# Altium schematic symbol library RemoteCar_V1.0.SchLib: 6 symbols
Pins are listed as number, name and electrical type; pins without a type are passive.

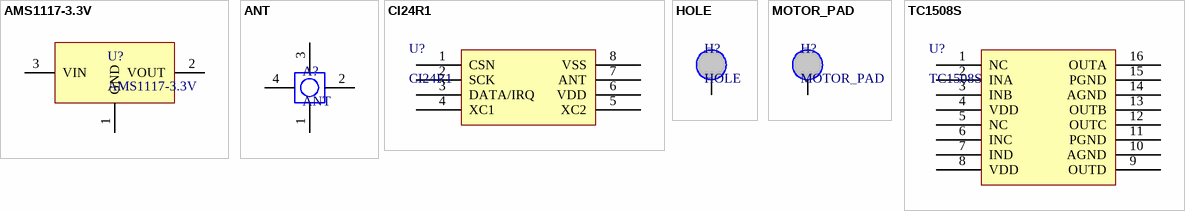
[diagram p0: symbols AMS1117-3.3V to TC1508S]

## AMS1117-3.3V
designator U?
footprint SOT230P700X180-4N (SOT223, 4-Leads, Body 6.50x7.00mm (avg), Pitch 2.30mm, IPC Medium Density)
pins: 1 GND, 2 VOUT, 3 VIN

## ANT
designator A?
footprint IPEX1
pins: 1 SIG, 2 GND, 3 GND, 4 GND

## CI24R1
designator U?
footprint TSOP127P600X145-8N (TSOP, 8-Leads, Body 4.90x3.90mm, Pitch 1.27mm, IPC Medium Density)
pins: 1 CSN, 2 SCK, 3 DATA/IRQ, 4 XC1, 5 XC2, 6 VDD, 7 ANT, 8 VSS

## HOLE
designator H?
footprint HOLE
pins: 1 GND

## MOTOR_PAD
designator H?
footprint MOTOR_PAD
pins: 1 MOTOR

## TC1508S
designator U?
footprint SOP127P600X180-16N (SOP, 16-Leads, Body 9.90x3.90mm, Pitch 1.27mm, IPC Medium Density)
pins: 1 NC, 2 INA, 3 INB, 4 VDD, 5 NC, 6 INC, 7 IND, 8 VDD, 9 OUTD, 10 AGND, 11 PGND, 12 OUTC, 13 OUTB, 14 AGND, 15 PGND, 16 OUTA